# EAGLE library part AD8348 (library CougsInSpace-RF)
Quadrature Demodulator AD8348 <https://github.com/CougsInSpace/Resources/blob/master/SupplierDocuments/Linear/AD8348_QuadratureDemodulator50~1000MHz.pdf> - 140~1000MHz
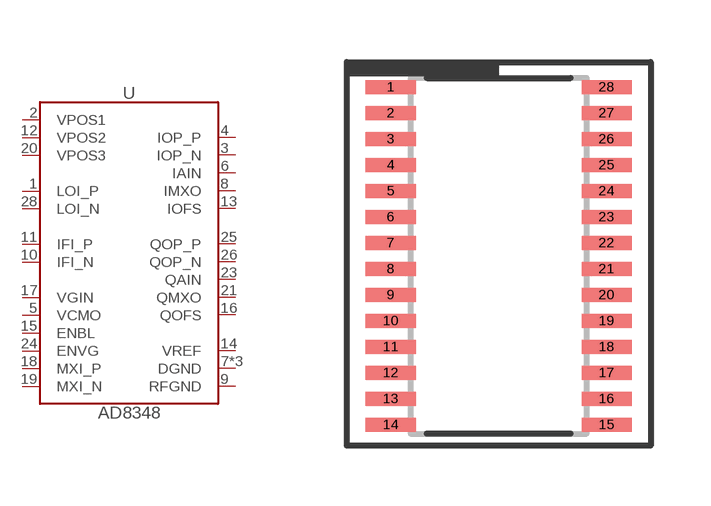
[diagram p2: symbol with the pads of TSSOP-28; footprint TSSOP-28]

Designator prefix U

## AD8348 (SKU: 65-0004; VALUE: AD8348)  [TSSOP-28]
1  LOI_P  in
2  VPOS1  pwr
3  IOP_N  out
4  IOP_P  out
5  VCMO  in
6  IAIN  in
7  DGND  pwr
8  IMXO  out
9  RFGND  pwr
10  IFI_N  in
11  IFI_P  in
12  VPOS2  pwr
13  IOFS  in
14  VREF  out
15  ENBL  in
16  QOFS  in
17  VGIN  in
18  MXI_P  in
19  MXI_N  in
20  VPOS3  pwr
21  QMXO  out
22  DGND  pwr
23  QAIN  in
24  ENVG  in
25  QOP_P  out
26  QOP_N  out
27  DGND  pwr
28  LOI_N  in

## Footprint TSSOP-28 (pad centres in mm)
Thin Shrink Small Outline Package - 28 Pins
smd 1.25 x 0.35: 1 -2.7,4.225; 2 -2.7,3.575; 3 -2.7,2.925; 4 -2.7,2.275; 5 -2.7,1.625; 6 -2.7,0.975; 7 -2.7,0.325; 8 -2.7,-0.325; 9 -2.7,-0.975; 10 -2.7,-1.625; 11 -2.7,-2.275; 12 -2.7,-2.925; 13 -2.7,-3.575; 14 -2.7,-4.225; 15 2.7,-4.225; 16 2.7,-3.575; 17 2.7,-2.925; 18 2.7,-2.275; 19 2.7,-1.625; 20 2.7,-0.975; 21 2.7,-0.325; 22 2.7,0.325; 23 2.7,0.975; 24 2.7,1.625; 25 2.7,2.275; 26 2.7,2.925; 27 2.7,3.575; 28 2.7,4.225